# EAGLE library part STM32 (library DP-EagleLibrary)
STM32F102C6
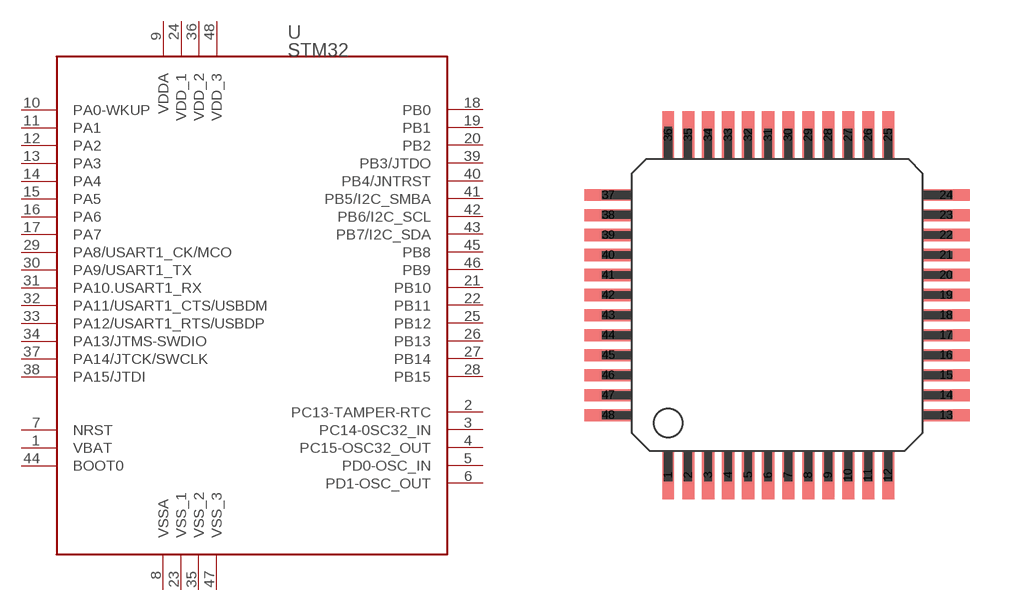
[diagram p0: symbol with the pads of LQFP48; footprint LQFP48]

Designator prefix -

## STM32  [LQFP48]
1  VBAT
2  PC13-TAMPER-RTC
3  PC14-0SC32_IN
4  PC15-OSC32_OUT
5  PD0-OSC_IN
6  PD1-OSC_OUT
7  NRST
8  VSSA  sup
9  VDDA  pwr
10  PA0-WKUP
11  PA1
12  PA2
13  PA3
14  PA4
15  PA5
16  PA6
17  PA7
18  PB0
19  PB1
20  PB2
21  PB10
22  PB11
23  VSS_1  sup
24  VDD_1  pwr
25  PB12
26  PB13
27  PB14
28  PB15
29  PA8/USART1_CK/MCO
30  PA9/USART1_TX
31  PA10.USART1_RX
32  PA11/USART1_CTS/USBDM
33  PA12/USART1_RTS/USBDP
34  PA13/JTMS-SWDIO
35  VSS_2  sup
36  VDD_2  pwr
37  PA14/JTCK/SWCLK
38  PA15/JTDI
39  PB3/JTDO
40  PB4/JNTRST
41  PB5/I2C_SMBA
42  PB6/I2C_SCL
43  PB7/I2C_SDA
44  BOOT0
45  PB8
46  PB9
47  VSS_3  sup
48  VDD_3  pwr

## Footprint LQFP48 (pad centres in mm)
LQFP48
smd 0.3 x 1.2: 1 -2.75,-4.25; 2 -2.25,-4.25; 3 -1.75,-4.25; 4 -1.25,-4.25; 5 -0.75,-4.25; 6 -0.25,-4.25; 7 0.25,-4.25; 8 0.75,-4.25; 9 1.25,-4.25; 10 1.75,-4.25; 11 2.25,-4.25; 12 2.75,-4.25; 25 2.75,4.25; 26 2.25,4.25; 27 1.75,4.25; 28 1.25,4.25; 29 0.75,4.25; 30 0.25,4.25; 31 -0.25,4.25; 32 -0.75,4.25; 33 -1.25,4.25; 34 -1.75,4.25; 35 -2.25,4.25; 36 -2.75,4.25
smd 1.2 x 0.3: 13 4.2,-2.75; 14 4.2,-2.25; 15 4.2,-1.75; 16 4.2,-1.25; 17 4.2,-0.75; 18 4.2,-0.25; 19 4.2,0.25; 20 4.2,0.75; 21 4.2,1.25; 22 4.2,1.75; 23 4.2,2.25; 24 4.2,2.75; 37 -4.25,2.75; 38 -4.25,2.25; 39 -4.25,1.75; 40 -4.25,1.25; 41 -4.25,0.75; 42 -4.25,0.25; 43 -4.25,-0.25; 44 -4.25,-0.75; 45 -4.25,-1.25; 46 -4.25,-1.75; 47 -4.25,-2.25; 48 -4.25,-2.75